# Altium footprint library JST SM08B-PASS-TB.PCBLIB: 1 footprints
Each footprint in its own frame and in the unit in brackets; x right, y up, seen from the top. Pads: shape width x height; smd on the part's side, far side on the other; paste and mask are expansions set on the pad; w line width, h text height; cw(c..) or ccw(c..) is an arc to the next point about the centre after c.
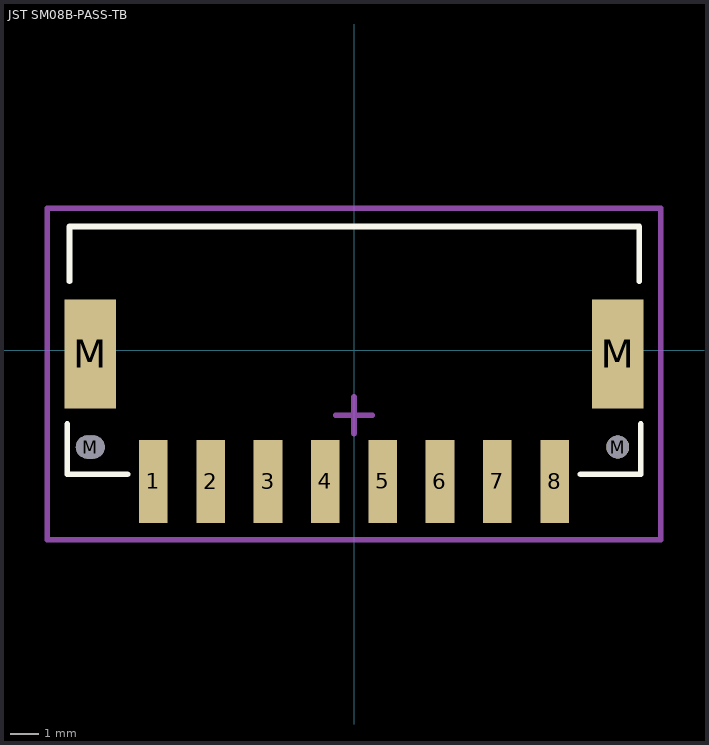
[diagram p0: the footprint, top view; thin cyan lines are the x and y axes]

## JST SM08B-PASS-TB [mm] "JST PA Series 2mm pitch, side entry connector"
height 5.7
pads (12):
  rect 1x2.9 smd: 1(-7,-4.575) 2(-5,-4.575) 3(-3,-4.575) 4(-1,-4.575) 5(1,-4.575) 6(3,-4.575) 7(5,-4.575) 8(7,-4.575)
  oval 1x0.8 hole 0.8 slot 1 at 0 deg unplated mask+0.102: M(-9.2,-3.375)
  rect 1.8x3.8 smd: M(-9.2,-0.125) M(9.2,-0.125)
  round 0.8 hole 0.8 unplated mask+0.102: M(9.2,-3.375)
Top Overlay:
  lines w0.2: -10,-2.575 -10,-4.325 -7.905,-4.325 ; -9.921,2.41 -9.921,4.315 9.953,4.315 9.953,2.41 ; 7.905,-4.325 10,-4.325 10,-2.575
Mechanical 15:
  lines w0.2: -0.635,-2.265 0.635,-2.265 ; 0,-2.9 0,-1.63 ; -10.699,-6.607 -10.699,4.953 10.699,4.953 10.699,-6.607 -10.699,-6.607
3D body "JST SM08B-PASS-TB.STEP": height 5.8, standoff 0, extent -10,-5.641 10,4.359